# Altium footprint library Fancy.PcbLib: 140 footprints (part 1 of 9)
Each footprint in its own frame and in the unit in brackets; x right, y up, seen from the top. Pads: shape width x height; smd on the part's side, far side on the other; paste and mask are expansions set on the pad; w line width, h text height; cw(c..) or ccw(c..) is an arc to the next point about the centre after c.
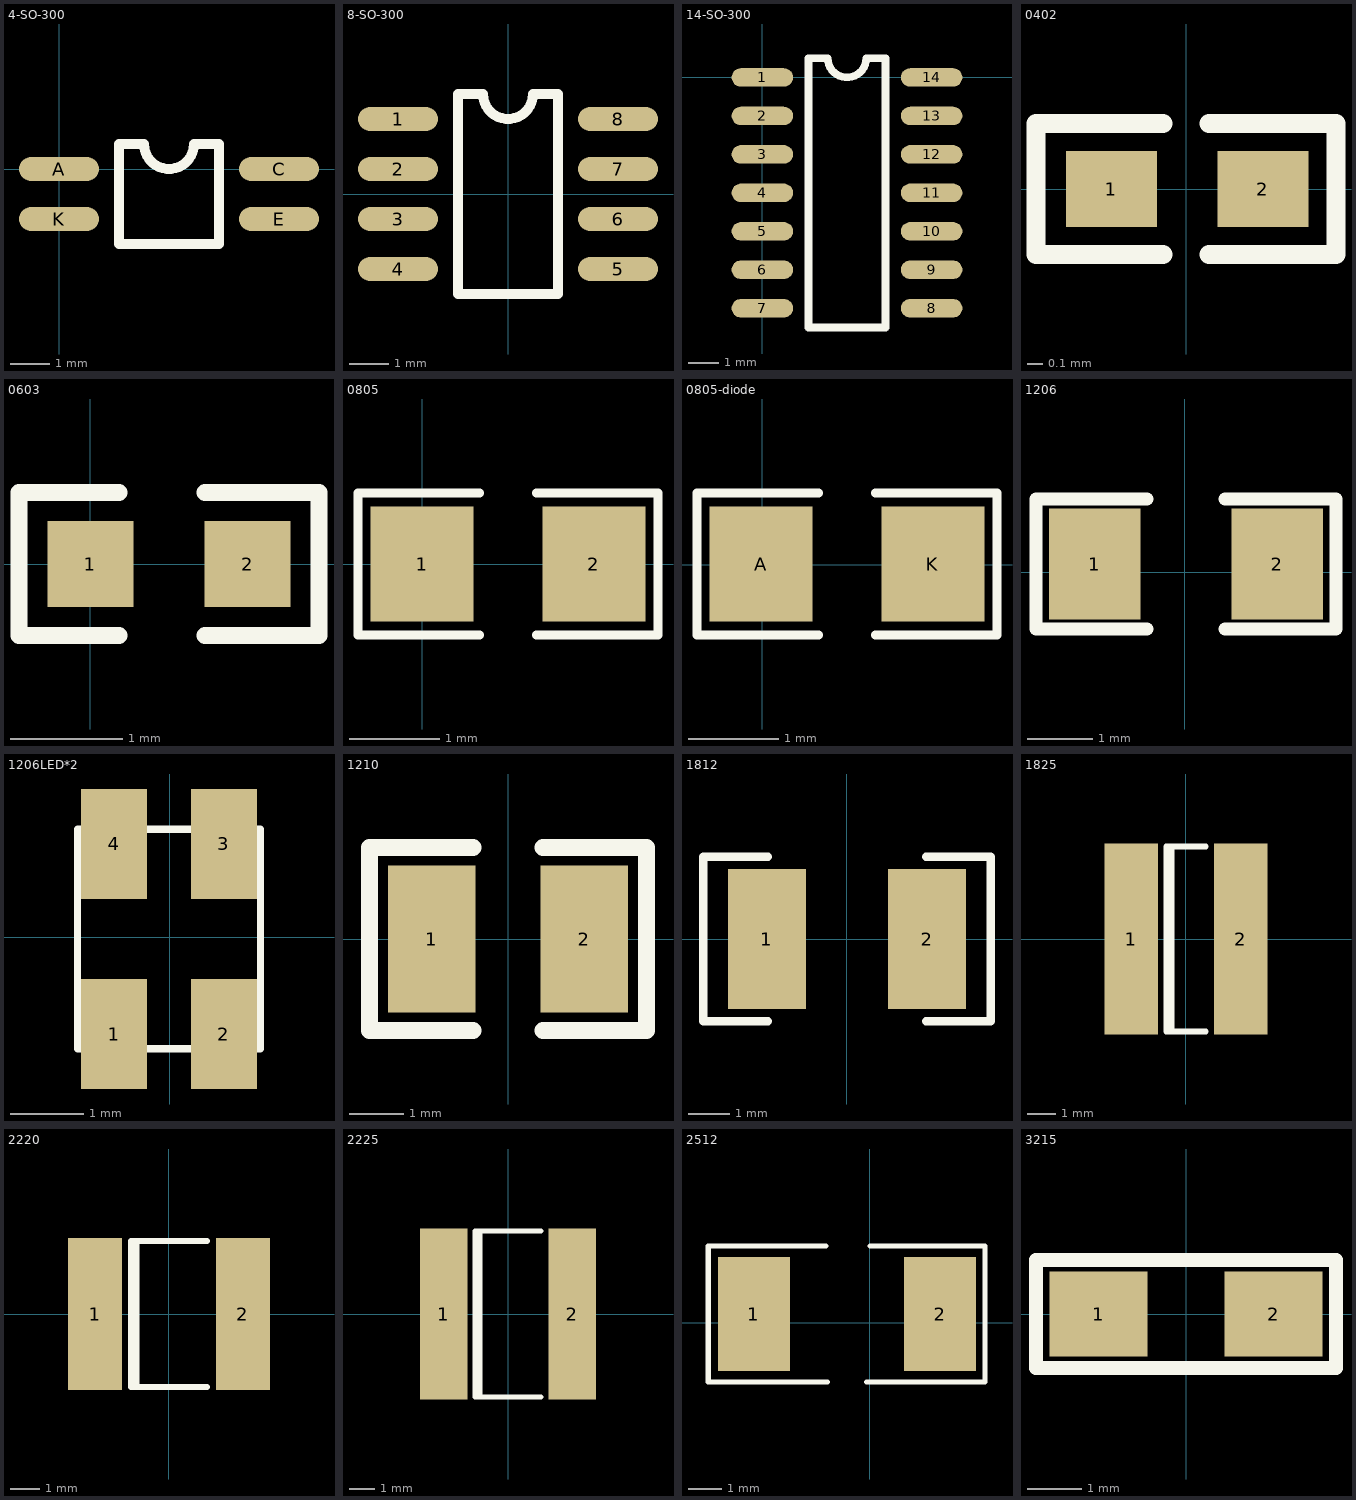
[diagram p0: the footprints below, top view; thin cyan lines are the x and y axes]

## 4-SO-300 [mil]
pads (4):
  oval 80x24 smd: A(0,0) C(220,0) E(220,-50) K(0,-50)
Top Overlay:
  lines w10: 60,-75 160,-75 160,25 135,25 cw(c110,25) 85,25 60,25 60,-75

## 8-SO-300 [mil]
pads (8):
  oval 80x24 smd: 1(-110,75) 2(-110,25) 3(-110,-25) 4(-110,-75) 5(110,-75) 6(110,-25) 7(110,25) 8(110,75)
Top Overlay:
  lines w10: -50,-100 50,-100 50,100 25,100 cw(c0,100) -25,100 -50,100 -50,-100

## 14-SO-300 [mil]
pads (14):
  oval 80x24 smd: 1(0,0) 2(0,-50) 3(0,-100) 4(0,-150) 5(0,-200) 6(0,-250) 7(0,-300) 8(220,-300) 9(220,-250) 10(220,-200) 11(220,-150) 12(220,-100) 13(220,-50) 14(220,0)
Top Overlay:
  lines w10: 60,-325 60,25 85,25 ccw(c110,25) 135,25 160,25 160,-325 60,-325

## 0402 [mm]
pads (2):
  rect 0.6x0.5 smd: 1(-0.492,0) 2(0.508,0)
Top Overlay:
  lines w0.127: -0.152,-0.432 -0.991,-0.432 -0.991,0.049 -0.991,0.432 -0.152,0.432 ; 0.152,-0.432 0.991,-0.432 0.991,0.432 0.152,0.432

## 0603 [mil]
pads (2):
  rect 30x30 smd: 1(0,0) 2(55,0)
Top Overlay:
  lines w5.91: 10,-25 -25,-25 -25,25 10,25 ; 40,-25 80,-25 80,25 40,25

## 0805 [mil]
pads (2):
  rect 45x50 smd: 1(0,0) 2(75,0)
Top Overlay:
  lines w3.94: 25,-31 -28,-31 -28,31 24.98,31 ; 50.02,-31 103,-31 103,31 50,31

## 0805-diode [mm]
pads (2):
  rect 1.143x1.27 smd: A(-0.01,0.01) K(1.895,0.01)
Top Overlay:
  lines w0.1: 0.625,-0.777 -0.721,-0.777 -0.721,0.797 0.624,0.797 ; 1.26,0.797 2.606,0.797 2.606,-0.777 1.261,-0.777

## 1206 [mil]
pads (2):
  rect 55.12x66.93 smd paste+0 mask+4: 1(-54.24,5) 2(56,5)
Top Overlay:
  lines w7.87: -22.74,-34.37 -89.67,-34.37 -89.67,44.37 -22.74,44.37 ; 24.5,-34.37 91.43,-34.37 91.43,44.37 24.5,44.37

## 1206LED*2 [mil]
pads (4):
  rect 35.43x59.06 smd paste+0 mask+4: 1(-30.06,-52) 2(29,-52) 3(29,50.36) 4(-30.06,50.36)
Top Overlay:
  lines w3.94: -49.74,-59.87 -49.74,58.24 48.68,58.24 48.68,-59.87 -49.74,-59.87

## 1210 [mm] "Chip Capacitor; Body 3.2 x 2.5 mm (LxW typ)"
height 1.7
pads (2):
  rect 1.6x2.7 smd: 1(-1.4,0) 2(1.4,0)
Top Overlay:
  lines w0.305: -0.635,-1.676 -2.54,-1.676 -2.54,1.676 -0.635,1.676 ; 0.635,-1.676 2.54,-1.676 2.54,1.676 0.635,1.676

## 1812 [mm] "Chip Capacitor; Body 4.5 x 3.2 mm (LxW typ)"
height 1.7
pads (2):
  rect 1.9x3.4 smd: 1(-1.95,0) 2(1.95,0)
Top Overlay:
  lines w0.2: -1.925,-2 -3.5,-2 -3.5,2 -1.925,2 ; 1.925,-2 3.5,-2 3.5,2 1.925,2

## 1825 [mm] "Chip Capacitor; Body 4.5 x 6.4 mm (LxW typ)"
height 1.7
pads (2):
  rect 1.9x6.8 smd: 1(-1.95,0) 2(1.95,0)
Top Overlay:
  lines w0.2: -0.51,-3.3 -0.51,3.3 ; 0.7,-3.3 -0.7,-3.3 -0.7,3.3 0.7,3.3

## 2220 [mm] "Chip Capacitor; Body 5.7 x 5.0 mm (LxW typ)"
height 1.8
pads (2):
  rect 1.85x5.2 smd: 1(-2.525,0) 2(2.525,0)
Top Overlay:
  lines w0.2: -1.11,-2.5 -1.11,2.5 ; 1.3,-2.5 -1.3,-2.5 -1.3,2.5 1.3,2.5

## 2225 [mm] "Chip Capacitor; Body 5.6 x 6.4 mm (LxW typ)"
height 2
pads (2):
  rect 1.9x6.8 smd: 1(-2.55,0) 2(2.55,0)
Top Overlay:
  lines w0.2: -1.11,-3.3 -1.11,3.3 ; 1.3,-3.3 -1.3,-3.3 -1.3,3.3 1.3,3.3

## 2512 [mm]
pads (2):
  rect 2.15x3.4 smd: 1(-3.461,0.254) 2(2.089,0.254)
Top Overlay:
  lines w0.152: -2.331,2.286 -1.321,2.286 ; -2.28,2.286 -4.826,2.286 -4.826,-1.778 -1.27,-1.778 ; -0.102,-1.778 3.429,-1.778 3.429,2.286 0,2.286

## 3215 [mm]
pads (2):
  rect 1.8x1.56 smd: 1(-1.6,0) 2(1.6,0)
Top Overlay:
  lines w0.254: -0.025,0.991 -2.743,0.991 -2.743,0 -2.743,-0.991 0,-0.991 ; 0,0.991 2.743,0.991 2.743,0 2.743,-0.991 0.025,-0.991